# Altium footprint library CUI_SJ1-3523N.PcbLib: 1 footprints
Each footprint in its own frame and in the unit in brackets; x right, y up, seen from the top. Pads: shape width x height; smd on the part's side, far side on the other; paste and mask are expansions set on the pad; w line width, h text height; cw(c..) or ccw(c..) is an arc to the next point about the centre after c.
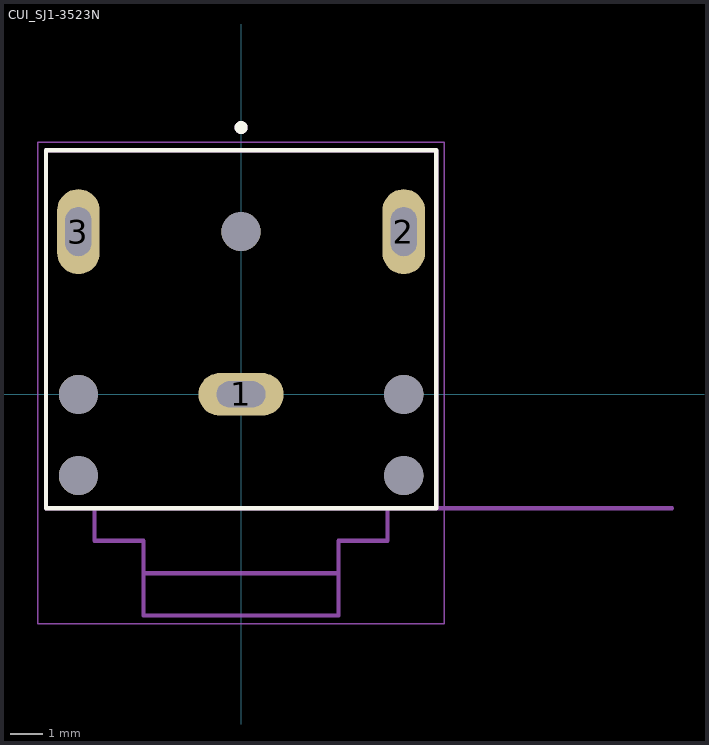
[diagram p0: the footprint, top view; thin cyan lines are the x and y axes]

## CUI_SJ1-3523N [mm]
height 6.25
pads (8):
  oval 2.616x1.308 hole 0.8 slot 1.5 at 0 deg: 1(0,0)
  oval 1.308x2.616 hole 0.8 slot 1.5 at 90 deg: 2(5,5) 3(-5,5)
  round 1.2 hole 1.2 unplated: ""(-5,-2.5) ""(-5,0) ""(0,5) ""(5,-2.5) ""(5,0)
Top Overlay:
  circle w0.2: c0,8.2 r0.1
  lines w0.127: -6,-3.5 6,-3.5 6,7.5 -6,7.5 -6,-3.5
Assembly Top:
  circle w0.2: c0,8.2 r0.1
  lines w0.127: 13.25,-3.5 6,-3.5 ; -4.5,-3.5 -4.5,-4.5 -3,-4.5 -3,-5.5 ; -4.5,-3.5 4.5,-3.5 ; -4.5,-3.5 -6,-3.5 -6,7.5 6,7.5 6,-3.5 ; -3,-5.5 3,-5.5 ; -3,-5.5 -3,-6.8 3,-6.8 3,-5.5 ; 3,-5.5 3,-4.5 4.5,-4.5 4.5,-3.5 ; 4.5,-3.5 6,-3.5
  text "PCB EDGE" at 7,-3.25 h0.81
Courtyard Top:
  lines w0.05: -6.25,-7.05 -6.25,7.75 6.25,7.75 6.25,-7.05 -6.25,-7.05
3D body "step_temp.STEP": height 5.55, standoff -2.96, extent -5.969,-6.769 6.031,7.531